# EAGLE library part AS1710A (library OP_AMP)
AS1710 High-Output-Drive, 10MHz, 10V/μ s, Rail-to-Rail I/O Op Amp with Shutdown
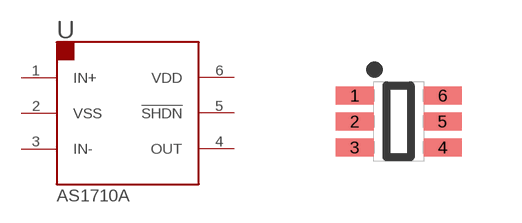
[diagram p0: symbol with the pads of SC-70-6; footprint SC-70-6]

Designator prefix U

## AS1710A-ASCT (PARTNO: 01-100481-00)  [SC-70-6]
1  IN+  in
2  VSS  pwr
3  IN-  in
4  OUT  out
5  !SHDN  in
6  VDD  pwr

## Footprint SC-70-6 (pad centres in mm)
SC-70-6 Copied from PhaseIV Ref Packages Library 04/16/13
smd 0.95 x 0.45: 1 -1.1,0.65; 2 -1.1,0; 3 -1.1,-0.65; 4 1.1,-0.65; 5 1.1,0; 6 1.1,0.65